# Altium schematic symbol library LM555.SchLib: 1 symbol
Pins are listed as number, name and electrical type; pins without a type are passive.

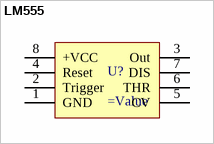
[diagram p0: symbol LM555]

## LM555
designator U?
pins: 1 GND, 2 Trigger, 3 Out, 4 Reset, 5 CV, 6 THR, 7 DIS, 8 +VCC